# Altium schematic symbol library XTX.SchLib: 1 symbol
Pins are listed as number, name and electrical type; pins without a type are passive.

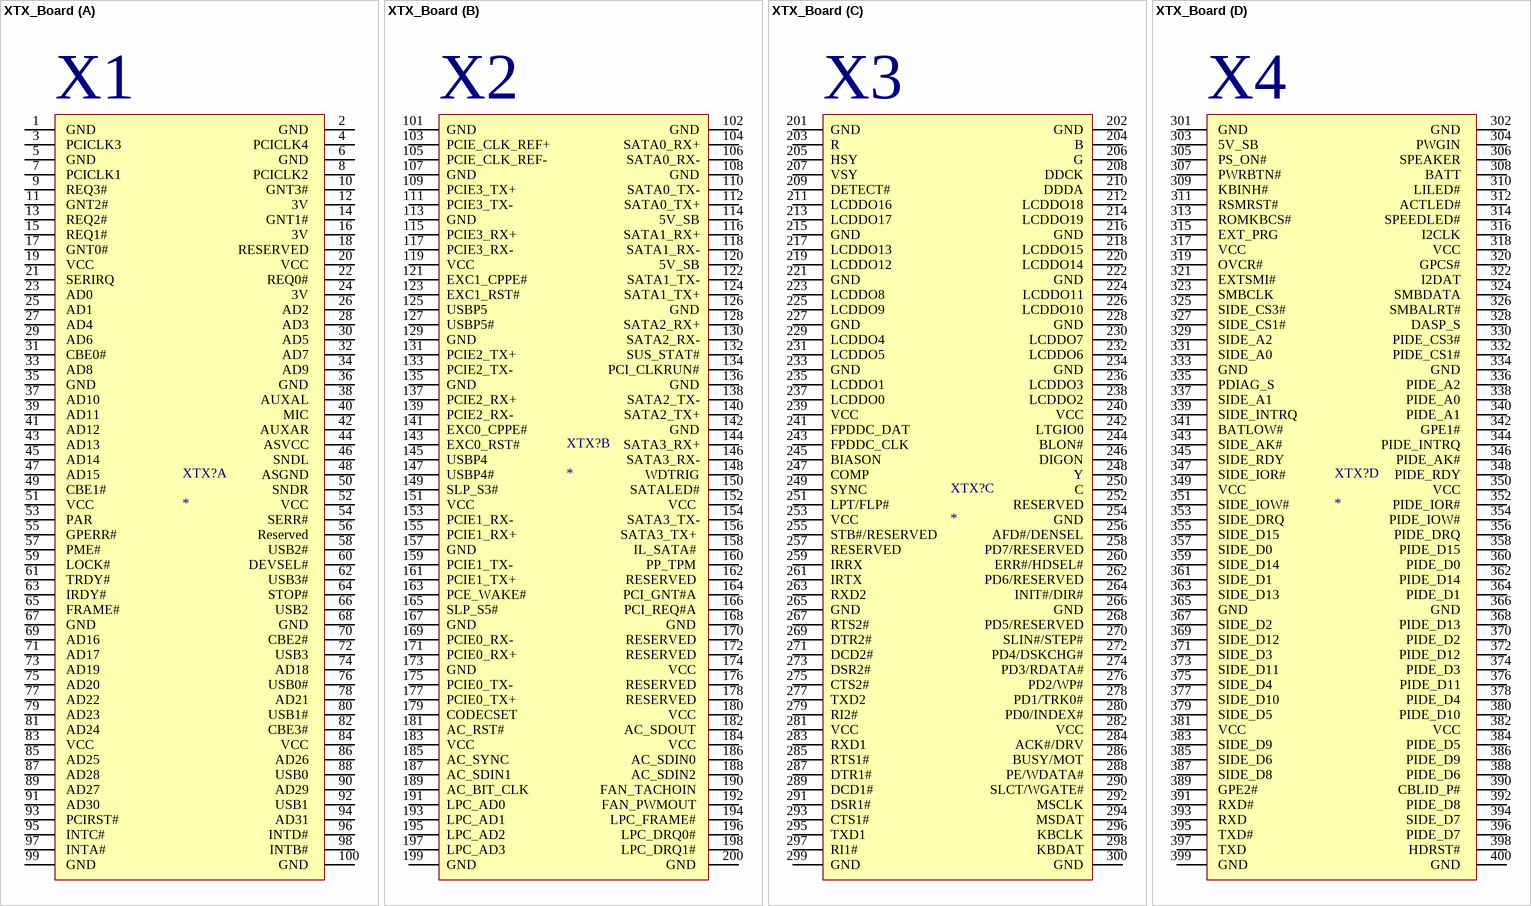
[diagram p0: symbol XTX_Board]

## XTX_Board
designator XTX?
Datasheet: http://www.xtx-standard.org/fileadmin/documents/XTX-Spec12.pdf
footprint XTX_Board
part A pins: 1  GND  , 2  GND  , 3  PCICLK3  , 4  PCICLK4  , 5  GND  , 6  GND  , 7  PCICLK1  , 8  PCICLK2  , 9  REQ3#  , 10  GNT3#  , 11  GNT2#  , 12  3V  , 13  REQ2#  , 14  GNT1#  , 15  REQ1#  , 16  3V  , 17  GNT0#  , 18  RESERVED  , 19  VCC  , 20  VCC  , 21  SERIRQ  , 22  REQ0#  , 23  AD0  , 24  3V  , 25  AD1  , 26  AD2  , 27  AD4  , 28  AD3  , 29  AD6  , 30  AD5  , 31  CBE0#  , 32  AD7  , 33  AD8  , 34  AD9  , 35  GND  , 36  GND  , 37  AD10  , 38  AUXAL  , 39  AD11  , 40  MIC  , 41  AD12  , 42  AUXAR  , 43  AD13  , 44  ASVCC  , 45  AD14  , 46  SNDL  , 47  AD15  , 48  ASGND  , 49  CBE1#  , 50  SNDR  , 51  VCC  , 52  VCC  , 53  PAR  , 54  SERR#  , 55  GPERR#  , 56  Reserved  , 57  PME#  , 58  USB2#  , 59  LOCK#  , 60  DEVSEL#  , 61  TRDY#  , 62  USB3#  , 63  IRDY#  , 64  STOP#  , 65  FRAME#  , 66  USB2  , 67  GND  , 68  GND  , 69  AD16  , 70  CBE2#  , 71  AD17  , 72  USB3  , 73  AD19  , 74  AD18  , 75  AD20  , 76  USB0#  , 77  AD22  , 78  AD21  , 79  AD23  , 80  USB1#  , 81  AD24  , 82  CBE3#  , 83  VCC  , 84  VCC  , 85  AD25  , 86  AD26  , 87  AD28  , 88  USB0  , 89  AD27  , 90  AD29  , 91  AD30  , 92  USB1  , 93  PCIRST#  , 94  AD31  , 95  INTC#  , 96  INTD#  , 97  INTA#  , 98  INTB#  , 99  GND  , 100  GND  
part B pins: 101 GND, 102 GND, 103 PCIE_CLK_REF+, 104 SATA0_RX+, 105 PCIE_CLK_REF-, 106 SATA0_RX-, 107 GND , 108 GND, 109 PCIE3_TX+ , 110 SATA0_TX-, 111 PCIE3_TX-, 112 SATA0_TX+, 113 GND , 114 5V_SB, 115 PCIE3_RX+ , 116 SATA1_RX+, 117 PCIE3_RX-, 118 SATA1_RX-, 119 VCC , 120 5V_SB, 121 EXC1_CPPE# , 122 SATA1_TX-, 123 EXC1_RST# , 124 SATA1_TX+, 125 USBP5, 126 GND, 127 USBP5# , 128 SATA2_RX+, 129 GND , 130 SATA2_RX-, 131 PCIE2_TX+ , 132 SUS_STAT#, 133 PCIE2_TX-, 134 PCI_CLKRUN#, 135 GND  , 136 GND, 137 PCIE2_RX+ , 138 SATA2_TX-, 139 PCIE2_RX-, 140 SATA2_TX+, 141 EXC0_CPPE#, 142 GND, 143 EXC0_RST# , 144 SATA3_RX+, 145 USBP4 , 146 SATA3_RX-, 147 USBP4# , 148 WDTRIG, 149 SLP_S3#, 150 SATALED#, 151 VCC , 152 VCC , 153 PCIE1_RX-, 154 SATA3_TX-, 155 PCIE1_RX+ , 156 SATA3_TX+ , 157 GND , 158 IL_SATA# , 159 PCIE1_TX-, 160 PP_TPM , 161 PCIE1_TX+ , 162 RESERVED , 163 PCE_WAKE# , 164 PCI_GNT#A , 165 SLP_S5# , 166 PCI_REQ#A , 167 GND , 168 GND , 169 PCIE0_RX-, 170 RESERVED , 171 PCIE0_RX+ , 172 RESERVED , 173 GND , 174 VCC , 175 PCIE0_TX-, 176 RESERVED , 177 PCIE0_TX+ , 178 RESERVED , 179 CODECSET , 180 VCC , 181 AC_RST# , 182 AC_SDOUT , 183 VCC , 184 VCC , 185 AC_SYNC , 186 AC_SDIN0 , 187 AC_SDIN1 , 188 AC_SDIN2 , 189 AC_BIT_CLK , 190 FAN_TACHOIN , 191 LPC_AD0 , 192 FAN_PWMOUT , 193 LPC_AD1 , 194 LPC_FRAME# , 195 LPC_AD2 , 196 LPC_DRQ0# , 197 LPC_AD3 , 198 LPC_DRQ1# , 199 GND , 200 GND 
part C pins: 201 GND, 202 GND, 203 R, 204 B, 205 HSY, 206 G, 207 VSY, 208 DDCK, 209 DETECT#, 210 DDDA, 211 LCDDO16, 212 LCDDO18, 213 LCDDO17, 214 LCDDO19, 215 GND, 216 GND, 217 LCDDO13, 218 LCDDO15, 219 LCDDO12, 220 LCDDO14, 221 GND, 222 GND, 223 LCDDO8, 224 LCDDO11, 225 LCDDO9, 226 LCDDO10, 227 GND, 228 GND, 229 LCDDO4, 230 LCDDO7, 231 LCDDO5, 232 LCDDO6, 233 GND, 234 GND, 235 LCDDO1, 236 LCDDO3, 237 LCDDO0, 238 LCDDO2, 239 VCC, 240 VCC, 241 FPDDC_DAT, 242 LTGIO0, 243 FPDDC_CLK, 244 BLON#, 245 BIASON, 246 DIGON, 247 COMP, 248 Y, 249 SYNC, 250 C, 251 LPT/FLP#, 252 RESERVED, 253 VCC, 254 GND, 255 STB#/RESERVED, 256 AFD#/DENSEL, 257 RESERVED, 258 PD7/RESERVED, 259 IRRX, 260 ERR#/HDSEL#, 261 IRTX, 262 PD6/RESERVED, 263 RXD2, 264 INIT#/DIR#, 265 GND, 266 GND, 267 RTS2#, 268 PD5/RESERVED, 269 DTR2#, 270 SLIN#/STEP#, 271 DCD2#, 272 PD4/DSKCHG#, 273 DSR2#, 274 PD3/RDATA#, 275 CTS2#, 276 PD2/WP#, 277 TXD2, 278 PD1/TRK0#, 279 RI2#, 280 PD0/INDEX#, 281 VCC, 282 VCC, 283 RXD1, 284 ACK#/DRV, 285 RTS1#, 286 BUSY/MOT, 287 DTR1#, 288 PE/WDATA#, 289 DCD1#, 290 SLCT/WGATE#, 291 DSR1#, 292 MSCLK, 293 CTS1#, 294 MSDAT, 295 TXD1, 296 KBCLK, 297 RI1#, 298 KBDAT, 299 GND, 300 GND
part D pins: 301  GND  , 302  GND  , 303  5V_SB  , 304  PWGIN  , 305  PS_ON#  , 306  SPEAKER  , 307  PWRBTN#  , 308  BATT  , 309  KBINH#  , 310  LILED#  , 311  RSMRST#  , 312  ACTLED#  , 313  ROMKBCS#  , 314  SPEEDLED#  , 315  EXT_PRG  , 316  I2CLK  , 317  VCC  , 318  VCC  , 319  OVCR#  , 320  GPCS#  , 321  EXTSMI#  , 322  I2DAT  , 323  SMBCLK  , 324  SMBDATA  , 325  SIDE_CS3#  , 326  SMBALRT#  , 327  SIDE_CS1#  , 328  DASP_S  , 329  SIDE_A2  , 330  PIDE_CS3#  , 331  SIDE_A0  , 332  PIDE_CS1#  , 333  GND  , 334  GND  , 335  PDIAG_S  , 336  PIDE_A2  , 337  SIDE_A1  , 338  PIDE_A0  , 339  SIDE_INTRQ  , 340  PIDE_A1  , 341  BATLOW#  , 342  GPE1#  , 343  SIDE_AK#  , 344  PIDE_INTRQ  , 345  SIDE_RDY  , 346  PIDE_AK#  , 347  SIDE_IOR#  , 348  PIDE_RDY  , 349  VCC  , 350  VCC  , 351  SIDE_IOW#  , 352  PIDE_IOR#  , 353  SIDE_DRQ  , 354  PIDE_IOW#  , 355  SIDE_D15  , 356  PIDE_DRQ  , 357  SIDE_D0  , 358  PIDE_D15  , 359  SIDE_D14  , 360  PIDE_D0  , 361  SIDE_D1  , 362  PIDE_D14  , 363  SIDE_D13  , 364  PIDE_D1  , 365  GND  , 366  GND  , 367  SIDE_D2  , 368  PIDE_D13  , 369  SIDE_D12  , 370  PIDE_D2  , 371  SIDE_D3  , 372  PIDE_D12  , 373  SIDE_D11  , 374  PIDE_D3  , 375  SIDE_D4  , 376  PIDE_D11  , 377  SIDE_D10  , 378  PIDE_D4  , 379  SIDE_D5  , 380  PIDE_D10  , 381  VCC  , 382  VCC  , 383  SIDE_D9  , 384  PIDE_D5  , 385  SIDE_D6  , 386  PIDE_D9  , 387  SIDE_D8  , 388  PIDE_D6  , 389  GPE2#  , 390  CBLID_P#  , 391  RXD#  , 392  PIDE_D8  , 393  RXD  , 394  SIDE_D7  , 395  TXD#  , 396  PIDE_D7  , 397  TXD  , 398  HDRST#  , 399  GND  , 400  GND  
part A text: X1
part B text: X2
part C text: X3
part D text: X4